# Altium schematic symbol library Indrek.SchLib: 39 symbols
Pins are listed as number, name and electrical type; pins without a type are passive.

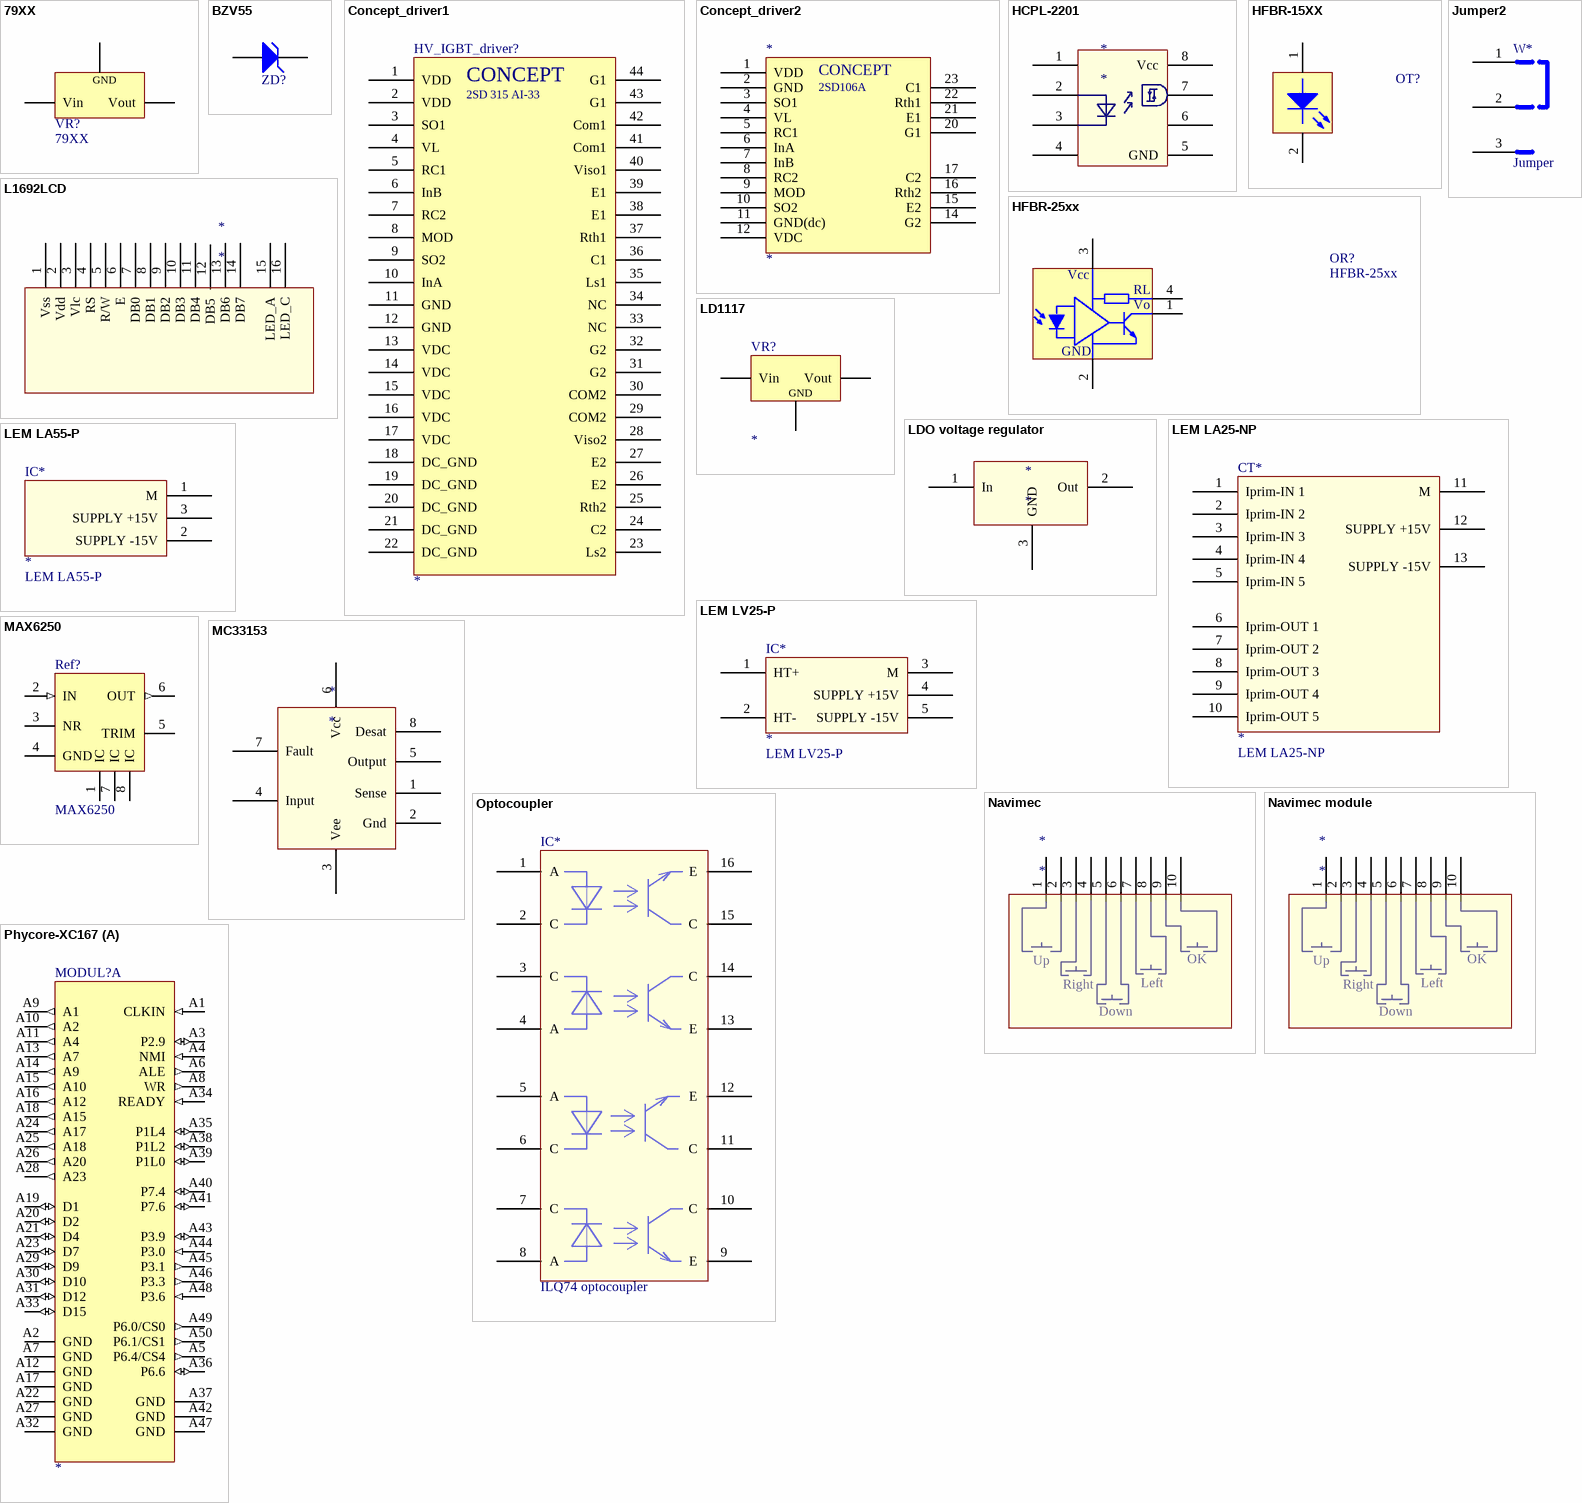
[diagram p0: symbols 79XX to Phycore-XC167]

## 79XX
designator VR?
Voltage Regulator; Code - JEDEC: SMD-220; Published: 24-Mar-1999; Revision: July-2002: Re-released for DXP Platform.; Publisher: Altium Limited
footprint SIP-G3/Y2 (D2-PAK/TO-263-AB; 3 Leads (1 Cropped); Body 15.5 (inc. leads) x 10.5 mm (LxW max))
footprint TO220
pins: 1 GND, 2 Vin, 3 Vout

## BZV55
designator ZD?  (value not drawn)
Zener diood
footprint CR3216-1206 (Chip Resistor; Body 3.2 x 1.6 mm (LxW typ))
pins: 1 A, 2 K

## Concept_driver1
designator HV_IGBT_driver?
2SD 315 AI-33 IGBT driver core
footprint Concept_driver_FP (IGBT driver core)
pins: 1 VDD, 2 VDD, 3 SO1, 4 VL, 5 RC1, 6 InB, 7 RC2, 8 MOD, 9 SO2, 10 InA, 11 GND, 12 GND, 13 VDC, 14 VDC, 15 VDC, 16 VDC, 17 VDC, 18 DC_GND, 19 DC_GND, 20 DC_GND, 21 DC_GND, 22 DC_GND, 23 Ls2, 24 C2, 25 Rth2, 26 E2, 27 E2, 28 Viso2, 29 COM2, 30 COM2, 31 G2, 32 G2, 33 NC, 34 NC, 35 Ls1, 36 C1, 37 Rth1, 38 E1, 39 E1, 40 Viso1, 41 Com1, 42 Com1, 43 G1, 44 G1
text: CONCEPT; 2SD 315 AI-33

## Concept_driver2
designator *
2SD160A IGBT driver core
footprint Concept_small_driver_FP (IGBT driver core)
pins: 1 VDD "+15 V VDD", 2 GND, 3 SO1 "Status output 1", 4 VL "Logic level/reset", 5 RC1 "Dead time RC 1", 6 InA "Input A", 7 InB "Input B", 8 RC2 "Dead time RC 2", 9 MOD "Reziimi valik", 10 SO2 "Status output 2", 11 GND(dc) "GND (DC/DC converter)", 12 VDC "+15V VDC (DC/DC converter)", 14 G2 "Gate 2 channel", 15 E2 "Emiter 2 channel", 16 Rth2 "Tagasiside 2", 17 C2 "Collector 2 channel", 20 G1 "Gate 1 channel", 21 E1 "Emiter 1 channel", 22 Rth1 "Tagasiside 1", 23 C1 "Collector 1 channel"
text: CONCEPT; 2SD106A

## HCPL-2201
designator *
pins: 1 12, 2 12, 3 12, 4 12, 5 GND, 6 10, 7 9, 8 Vcc

## HFBR-15XX
designator OT?
Optical transimtter; Published: 8-Jun-2000; Revision: July-2002: Re-released for DXP Platform.; Publisher: Altium Limited
footprint HFBR (FOL)
pins: 1 A, 2 K, 3 NC hidden, 4 NC hidden, 5 NC hidden, 8 NC hidden

## HFBR-25xx
designator OR?
Optical receiver
footprint HFBR (FOL)
pins: 1 V0, 2 GND, 3 Vcc, 4 RL, 5 NC hidden, 8 NC hidden
text: Vo

## Jumper2
designator W*, comment Jumper
footprint Jumper2_FP (Valikujumper)
pins: 1, 2, 3

## L1692LCD
designator *
pins: 1 Vss, 2 Vdd, 3 Vlc, 4 RS, 5 R/W, 6 E, 7 DB0, 8 DB1, 9 DB2, 10 DB3, 11 DB4, 12 DB5, 13 DB6, 14 DB7, 15 LED_A, 16 LED_C

## LD1117
designator VR?
footprint TO220
pins: 1 GND, 2 Vout, 3 Vin

## LDO voltage regulator
designator *
pins: 1 In, 2 Out, 3 GND

## LEM LA25-NP
designator CT*  Type: LEM LA25-NP
5-25 A current transducer
pins: 1 Iprim-IN 1, 2 Iprim-IN 2, 3 Iprim-IN 3, 4 Iprim-IN 4, 5 Iprim-IN 5, 6 Iprim-OUT 1, 7 Iprim-OUT 2, 8 Iprim-OUT 3, 9 Iprim-OUT 4, 10 Iprim-OUT 5, 11 M, 12 SUPPLY +15V, 13 SUPPLY -15V

## LEM LA55-P
designator IC*  Type: LEM LA55-P
10-500 V Voltage transducer
pins: 1 M, 2 SUPPLY -15V, 3 SUPPLY +15V

## LEM LV25-P
designator IC*  Type: LEM LV25-P
10-500 V Voltage transducer
pins: 1 HT+, 2 HT-, 3 M, 4 SUPPLY +15V, 5 SUPPLY -15V

## MAX6250
designator Ref?
Täppis tugipingeallikas; Autor: Indrek Roasto
footprint SO-G8
footprint SO8
pins: 1 IC hidden, 2 IN (in), 3 NR, 4 GND, 5 TRIM, 6 OUT (out), 7 IC hidden, 8 IC hidden

## MC33153
designator *
pins: 1 Sense, 2 Gnd, 3 Vee, 4 Input, 5 Output, 6 Vcc, 7 Fault, 8 Desat

## Navimec
designator *
pins: 1, 2, 3, 4, 5, 6, 7, 8, 9, 10
text: Up; OK; Right; Left; Down

## Navimec module
designator *
pins: 1, 2, 3, 4, 5, 6, 7, 8, 9, 10
text: Up; OK; Right; Left; Down

## Optocoupler
designator IC*, comment ILQ74 optocoupler
pins: 1 A, 2 C, 3 C, 4 A, 5 A, 6 C, 7 C, 8 A, 9 E, 10 C, 11 C, 12 E, 13 E, 14 C, 15 C, 16 E

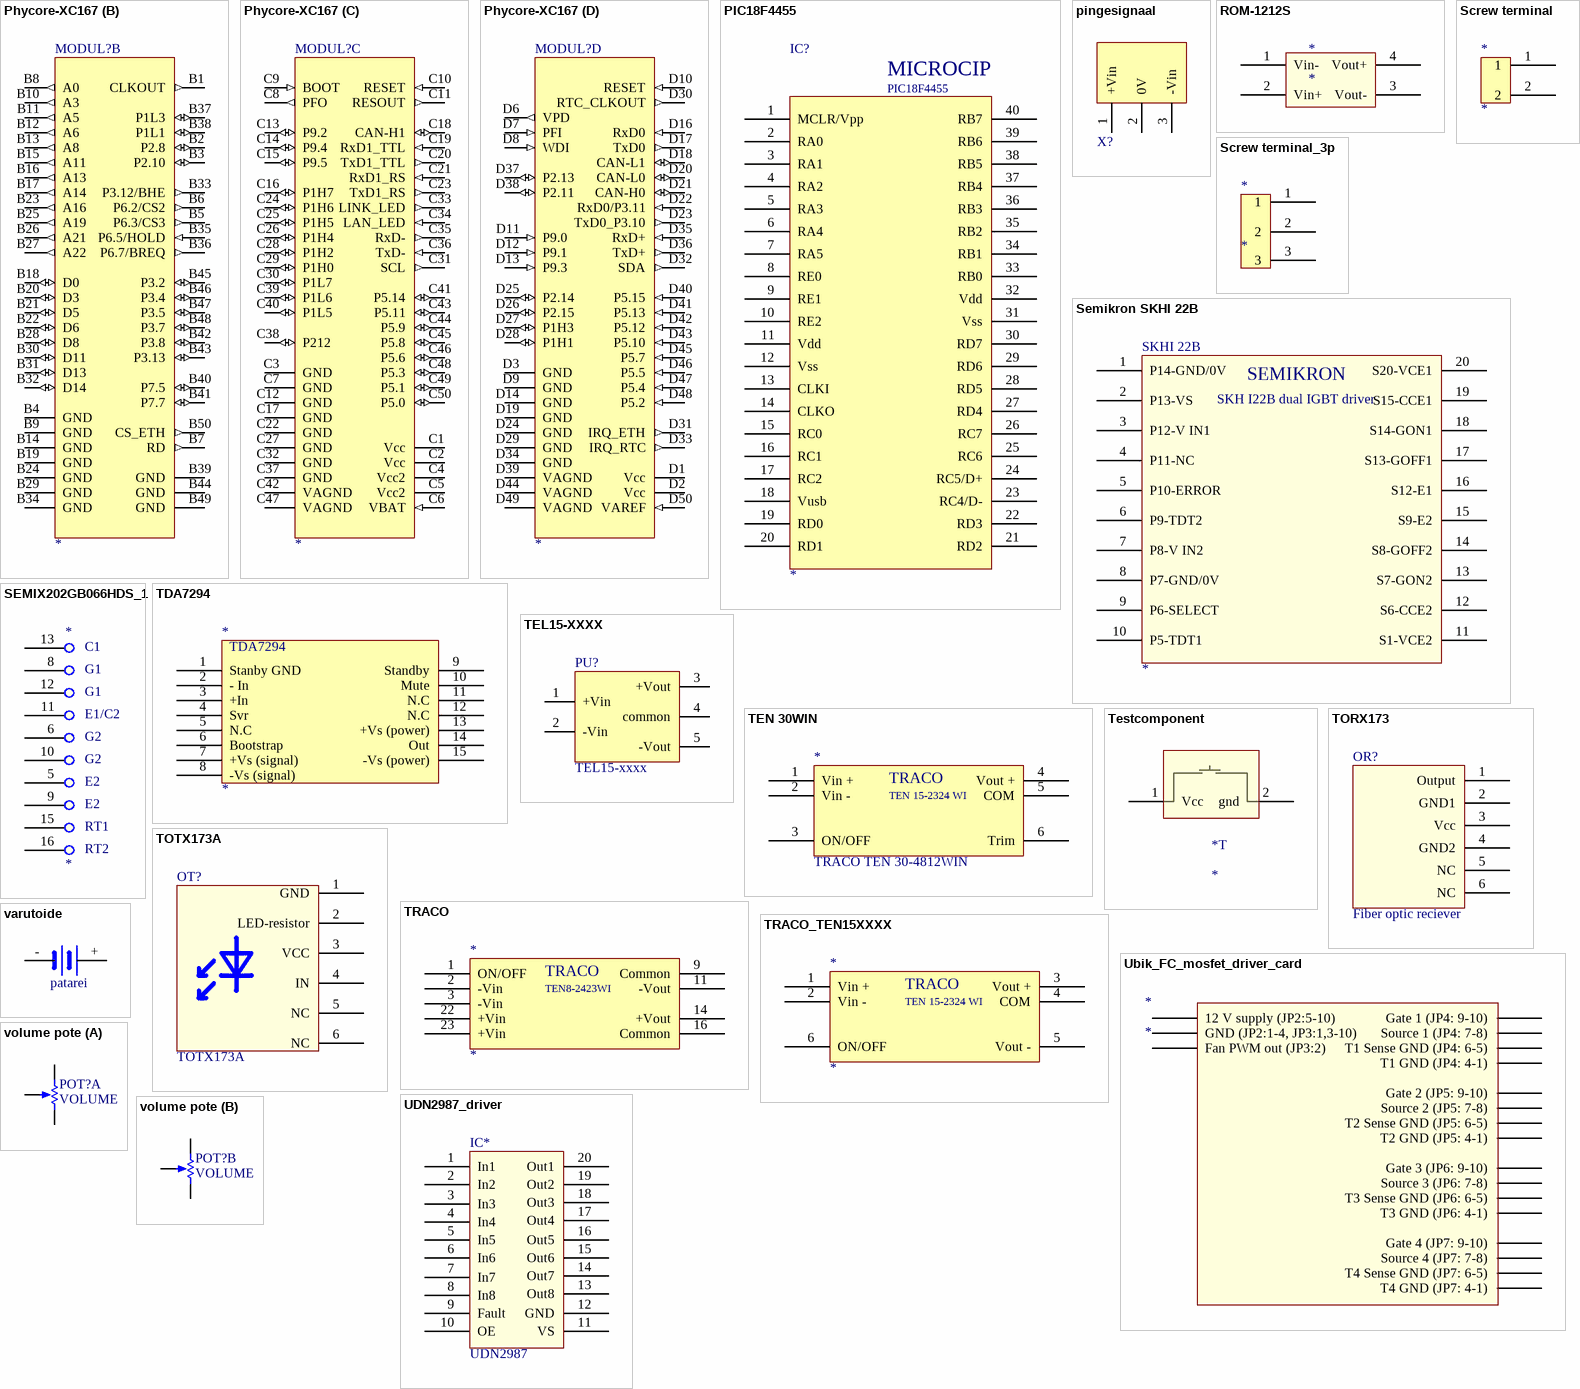
[diagram p1: symbols Phycore-XC167 to volume pote]

## Phycore-XC167
designator MODUL?
Phyteci uC moodul; Autor: Indrek Roasto; Kuupäev: 20 september 2006
footprint Molex_53467-1009
part A pins: A1 CLKIN (in), A2 GND, A3 P2.9 (io), A4 NMI (in), A5 P6.4/CS4 (out), A6 ALE (out), A7 GND, A8 WR (out), A9 A1 (out), A10 A2 (out), A11 A4 (out), A12 GND, A13 A7 (out), A14 A9 (out), A15 A10 (out), A16 A12 (out), A17 GND, A18 A15 (out), A19 D1 (io), A20 D2 (io), A21 D4 (io), A22 GND, A23 D7 (io), A24 A17 (out), A25 A18 (out), A26 A20 (out), A27 GND, A28 A23 (out), A29 D9 (io), A30 D10 (io), A31 D12 (io), A32 GND, A33 D15 (io), A34 READY (in), A35 P1L4 (io), A36 P6.6 (io), A37 GND, A38 P1L2 (io), A39 P1L0 (io), A40 P7.4 (io), A41 P7.6 (io), A42 GND, A43 P3.9 (io), A44 P3.0 (in), A45 P3.1 (out), A46 P3.3 (out), A47 GND, A48 P3.6 (in), A49 P6.0/CS0 (out), A50 P6.1/CS1 (out)
part B pins: B1 CLKOUT (out), B2 P2.8 (io), B3 P2.10 (io), B4 GND, B5 P6.3/CS3 (out), B6 P6.2/CS2 (out), B7 RD (out), B8 A0 (out), B9 GND, B10 A3 (out), B11 A5 (out), B12 A6 (out), B13 A8 (out), B14 GND, B15 A11 (out), B16 A13 (out), B17 A14 (out), B18 D0 (io), B19 GND, B20 D3 (io), B21 D5 (io), B22 D6 (io), B23 A16 (out), B24 GND, B25 A19 (out), B26 A21 (out), B27 A22 (out), B28 D8 (io), B29 GND, B30 D11 (io), B31 D13 (io), B32 D14 (io), B33 P3.12/BHE (out), B34 GND, B35 P6.5/HOLD (in), B36 P6.7/BREQ (out), B37 P1L3 (io), B38 P1L1 (io), B39 GND, B40 P7.5 (io), B41 P7.7 (io), B42 P3.8 (io), B43 P3.13 (io), B44 GND, B45 P3.2 (io), B46 P3.4 (io), B47 P3.5 (io), B48 P3.7 (io), B49 GND, B50 CS_ETH (out)
part C pins: C1 Vcc, C2 Vcc, C3 GND, C4 Vcc2, C5 Vcc2, C6 VBAT (in), C7 GND, C8 PFO (out), C9 BOOT (in), C10 RESET (in), C11 RESOUT (out), C12 GND, C13 P9.2 (io), C14 P9.4 (io), C15 P9.5 (io), C16 P1H7 (io), C17 GND, C18 CAN-H1 (io), C19 RxD1_TTL (in), C20 TxD1_TTL (out), C21 RxD1_RS (in), C22 GND, C23 TxD1_RS (out), C24 P1H6 (io), C25 P1H5 (io), C26 P1H4 (io), C27 GND, C28 P1H2 (io), C29 P1H0 (io), C30 P1L7 (io), C31 SCL (out), C32 GND, C33 LINK_LED (out), C34 LAN_LED (in), C35 RxD- (out), C36 TxD- (in), C37 GND, C38 P212 (io), C39 P1L6 (io), C40 P1L5 (io), C41 P5.14 (io), C42 VAGND, C43 P5.11 (io), C44 P5.9 (io), C45 P5.8 (io), C46 P5.6 (io), C47 VAGND, C48 P5.3 (io), C49 P5.1 (io), C50 P5.0 (io)
part D pins: D1 Vcc, D2 Vcc, D3 GND, D4 NC hidden, D5 NC hidden, D6 VPD (out), D7 PFI (in), D8 WDI (in), D9 GND, D10 RESET (in), D11 P9.0 (in), D12 P9.1 (in), D13 P9.3 (in), D14 GND, D15 NC hidden, D16 RxD0 (in), D17 TxD0 (out), D18 CAN-L1 (io), D19 GND, D20 CAN-L0 (io), D21 CAN-H0 (io), D22 RxD0/P3.11 (in), D23 TxD0_P3.10 (out), D24 GND, D25 P2.14 (io), D26 P2.15 (io), D27 P1H3 (io), D28 P1H1 (io), D29 GND, D30 RTC_CLKOUT (out), D31 IRQ_ETH (out), D32 SDA (out), D33 IRQ_RTC (out), D34 GND, D35 RxD+ (in), D36 TxD+ (out), D37 P2.13 (io), D38 P2.11 (io), D39 VAGND, D40 P5.15 (in), D41 P5.13 (in), D42 P5.12 (in), D43 P5.10 (in), D44 VAGND, D45 P5.7 (in), D46 P5.5 (in), D47 P5.4 (in), D48 P5.2 (in), D49 VAGND, D50 VAREF (in)

## PIC18F4455
designator IC?
16bit MCU
footprint Concept_driver_FP (IGBT driver core)
pins: 1 MCLR/Vpp, 2 RA0, 3 RA1, 4 RA2, 5 RA3, 6 RA4, 7 RA5, 8 RE0, 9 RE1, 10 RE2, 11 Vdd, 12 Vss, 13 CLKI, 14 CLKO, 15 RC0, 16 RC1, 17 RC2, 18 Vusb, 19 RD0, 20 RD1, 21 RD2, 22 RD3, 23 RC4/D-, 24 RC5/D+, 25 RC6, 26 RC7, 27 RD4, 28 RD5, 29 RD6, 30 RD7, 31 Vss, 32 Vdd, 33 RB0, 34 RB1, 35 RB2, 36 RB3, 37 RB4, 38 RB5, 39 RB6, 40 RB7
text: MICROCIP

## pingesignaal
designator X?  (value not drawn)
pingemõõtesignaal
footprint pingesignaal
pins: 1 +Vin, 2 0V, 3 -Vin

## ROM-1212S
designator *
pins: 1 Vin-, 2 Vin+, 3 Vout-, 4 Vout+

## Screw terminal
designator *
Kruviklemmliist
pins: 1, 2

## Screw terminal_3p
designator *
Kruviklemmliist, 3p
pins: 1, 2, 3

## Semikron SKHI 22B
designator SKHI 22B
pins: 1 P14-GND/0V, 2 P13-VS, 3 P12-V IN1, 4 P11-NC, 5 P10-ERROR, 6 P9-TDT2, 7 P8-V IN2, 8 P7-GND/0V, 9 P6-SELECT, 10 P5-TDT1, 11 S1-VCE2, 12 S6-CCE2, 13 S7-GON2, 14 S8-GOFF2, 15 S9-E2, 16 S12-E1, 17 S13-GOFF1, 18 S14-GON1, 19 S15-CCE1, 20 S20-VCE1
text: SEMIKRON; SKH I22B dual IGBT driver

## SEMIX202GB066HDS_1
designator *
600 V, 174 A, IGBT half-bridge module
pins: 5, 6, 8, 9, 10, 11, 12, 13, 15, 16
text: C1; G1; E1/C2; G2; E2; RT1; RT2

## TDA7294
designator *
100W audio amp
pins: 1 Stanby GND, 2 - In, 3 +In, 4 Svr, 5 N.C, 6 Bootstrap, 7 +Vs (signal), 8 -Vs (signal), 9 Standby, 10 Mute, 11 N.C, 12 N.C, 13 +Vs (power), 14 Out, 15 -Vs (power)

## TEL15-XXXX
designator PU?, comment TEL15-xxxx
DC/DC converter 15 W; Company: TRACOPOWER; Autor: Indrek Roasto TTÜ; Kuupäev: 22 september 2006
footprint TEL15-xxxx (DC/DC muundurile)
pins: 1 +Vin, 2 -Vin, 3 +Vout, 4 common, 5 -Vout

## TEN 30WIN
designator *, comment TRACO TEN 30-4812WIN
18-70V/12V isolated power supply
footprint Traco_FP3 (2500mA traco power supply)
pins: 1 Vin +, 2 Vin -, 3 ON/OFF, 4 Vout +, 5 COM, 6 Trim
text: TRACO; TEN 15-2324 WI

## Testcomponent
designator *T
footprint Testfootprint (Self destruction button)
pins: 1 Vcc, 2 gnd

## TORX173
designator OR?, comment Fiber optic reciever
footprint TORX173
pins: 1 Output, 2 GND1, 3 Vcc, 4 GND2, 5 NC, 6 NC

## TOTX173A
designator OT?
Fiber optic transmitter
footprint TORX173
pins: 1 GND, 2 LED-resistor, 3 VCC, 4 IN, 5 NC, 6 NC

## TRACO
designator *
footprint Traco_FP (DC/DC toitemuundur)
pins: 1 ON/OFF, 2 -Vin, 3 -Vin, 9 Common, 11 -Vout, 14 +Vout, 16 Common, 22 +Vin, 23 +Vin
text: TEN8-2423WI

## TRACO_TEN15XXXX
designator *
footprint Traco_FP2 (500mA traco power supply)
pins: 1 Vin +, 2 Vin -, 3 Vout +, 4 COM, 5 Vout -, 6 ON/OFF
text: TRACO; TEN 15-2324 WI

## Ubik_FC_mosfet_driver_card
designator *
footprint Mosfet_driver board (Ubik_FC_converter_Mosfet_driver board)
pins: 1 12 V supply (JP2:5-10) , 2 GND (JP2:1-4, JP3:1,3-10), 3 Fan PWM out (JP3:2), 5 Gate 1 (JP4: 9-10), 6 Source 1 (JP4: 7-8), 7 T1 Sense GND (JP4: 6-5), 8 T1 GND (JP4: 4-1), 9 Gate 2 (JP5: 9-10), 10 Source 2 (JP5: 7-8), 11 T2 Sense GND (JP5: 6-5), 12 T2 GND (JP5: 4-1), 13 Gate 3 (JP6: 9-10), 14 Source 3 (JP6: 7-8), 15 T3 Sense GND (JP6: 6-5), 16 T3 GND (JP6: 4-1), 17 Gate 4 (JP7: 9-10), 18 Source 4 (JP7: 7-8), 19 T4 Sense GND (JP7: 6-5), 20 T4 GND (JP7: 4-1)

## UDN2987_driver
designator IC*, comment UDN2987
pins: 1 In1, 2 In2, 3 In3, 4 In4, 5 In5, 6 In6, 7 In7, 8 In8, 9 Fault, 10 OE, 11 VS, 12 GND, 13 Out8, 14 Out7, 15 Out6, 16 Out5, 17 Out4, 18 Out3, 19 Out2, 20 Out1

## varutoide
designator DC?, comment patarei
Autor: Indre Roasto
footprint patakas20 (patarei hoidja 20 mm)
pins: +, -

## volume pote
designator POT?, comment VOLUME
Autor: Indrek Roasto; Value: 10k; kuupäev: 25.04.2007
footprint pote (Volume nupuga potekas)
part A pins: 1 TOP, 2 TAP, 3 BOT
part B pins: 4 TOP, 5 TAP, 6 BOT